# Altium footprint library 28377一体板.PcbLib: 62 footprints (part 4 of 4)
Each footprint in its own frame and in the unit in brackets; x right, y up, seen from the top. Pads: shape width x height; smd on the part's side, far side on the other; paste and mask are expansions set on the pad; w line width, h text height; cw(c..) or ccw(c..) is an arc to the next point about the centre after c.
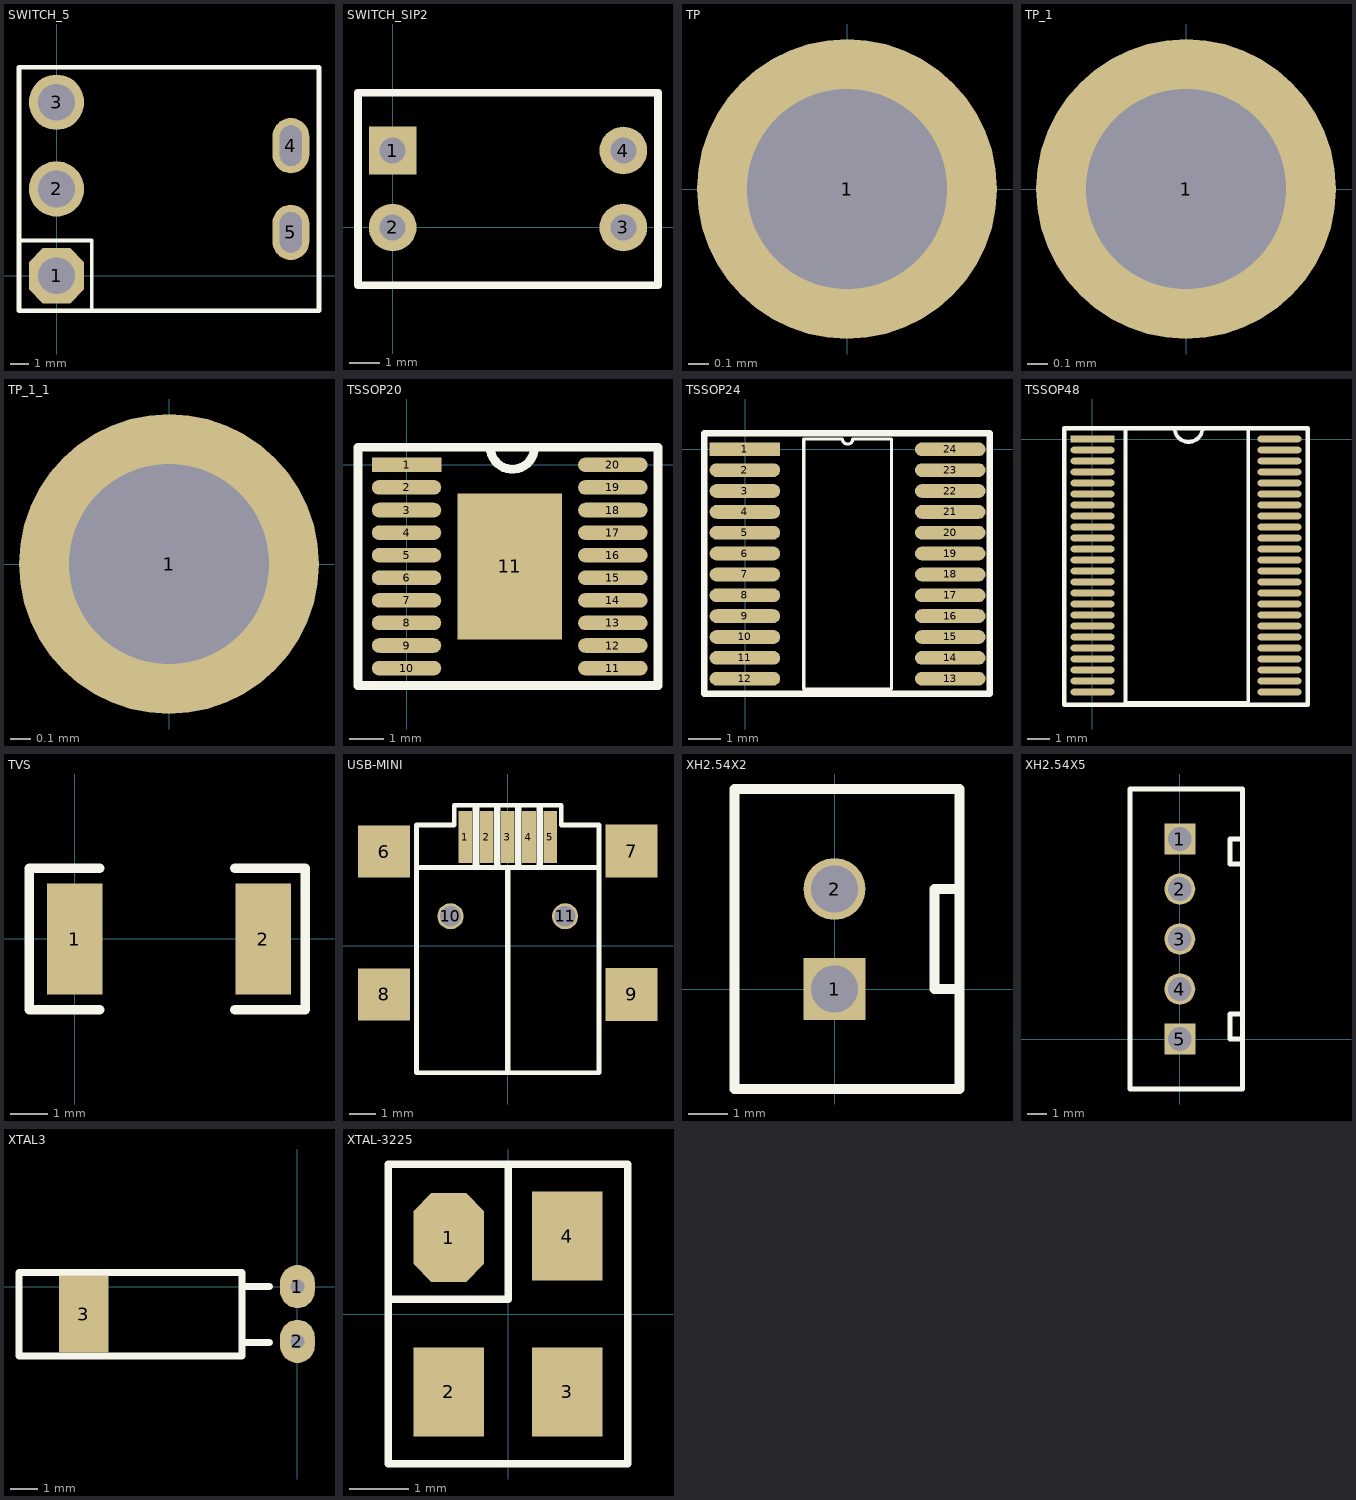
[diagram p3: the footprints below, top view; thin cyan lines are the x and y axes]

## SWITCH_5 [mm]
pads (5):
  oct 3x3 hole 2: 1(0,0)
  round 3 hole 2: 2(0,4.7) 3(0,9.4)
  oval 2x3 hole 1.2 slot 2.2 at 90 deg: 4(12.7,7.05) 5(12.7,2.35)
Top Overlay:
  lines w0.203: -2.032,1.905 1.905,1.905 1.905,-1.905
  lines w0.254: -2.032,-1.905 14.224,-1.905 14.224,11.303 -2.032,11.303 -2.032,-1.905

## SWITCH_SIP2 [mm]
pads (4):
  rect 1.575x1.575 hole 0.864: 1(0,2.54)
  round 1.575 hole 0.864: 2(0,0) 3(7.62,0) 4(7.62,2.54)
Top Overlay:
  lines w0.254: -1.143,-1.905 8.763,-1.905 8.763,4.445 -1.143,4.445 -1.143,-1.905

## TP [mm]
pads (1):
  round 1.5 hole 1: 1(0,0)

## TP_1 [mm]
pads (1):
  round 1.5 hole 1: 1(0,0)

## TP_1_1 [mm]
pads (1):
  round 1.5 hole 1: 1(0,0)

## TSSOP20 [mm]
pads (21):
  rect 2x0.42 smd: 1(0,0)
  oval 2x0.42 smd: 2(0,-0.65) 3(0,-1.3) 4(0,-1.95) 5(0,-2.6) 6(0,-3.25) 7(0,-3.9) 8(0,-4.55) 9(0,-5.2) 10(0,-5.85) 11(5.94,-5.85) 12(5.94,-5.2) 13(5.94,-4.55) 14(5.94,-3.9) 15(5.94,-3.25) 16(5.94,-2.6) 17(5.94,-1.95) 18(5.94,-1.3) 19(5.94,-0.65) 20(5.94,0)
  rect 3x4.2 smd: 11(2.97,-2.925)
Top Overlay:
  lines w0.254: 2.413,0.508 ccw(c3.048,0.508) 3.683,0.508 ; -1.397,-6.35 7.239,-6.35 7.239,0.508 -1.397,0.508 -1.397,-6.35

## TSSOP24 [mm]
pads (24):
  rect 2.2x0.43 smd: 1(-0.005,0.001)
  oval 2.2x0.43 smd: 2(-0.005,-0.649) 3(-0.005,-1.299) 4(-0.005,-1.949) 5(-0.005,-2.599) 6(-0.005,-3.249) 7(-0.005,-3.9) 8(-0.005,-4.549) 9(-0.005,-5.2) 10(-0.005,-5.849) 11(-0.005,-6.499) 12(-0.005,-7.15) 13(6.395,-7.15) 14(6.395,-6.499) 15(6.395,-5.849) 16(6.395,-5.2) 17(6.395,-4.549) 18(6.395,-3.9) 19(6.395,-3.249) 20(6.395,-2.599) 21(6.395,-1.949) 22(6.395,-1.299) 23(6.395,-0.649) 24(6.395,0.001)
Top Overlay:
  lines w0.1: 1.83,-7.475 1.83,0.326 3.032,0.326 ccw(c3.195,0.326) 3.357,0.326 4.56,0.326 4.56,-7.475 1.83,-7.475
  lines w0.203: -1.27,-7.62 -1.27,0.508 7.62,0.508 7.62,-7.62 -1.27,-7.62

## TSSOP48 [mm]
pads (48):
  rect 2x0.3 smd: 1(0.005,0.011)
  oval 2x0.3 smd: 2(0.005,-0.489) 3(0.005,-0.989) 4(0.005,-1.489) 5(0.005,-1.989) 6(0.005,-2.489) 7(0.005,-2.989) 8(0.005,-3.489) 9(0.005,-3.989) 10(0.005,-4.489) 11(0.005,-4.989) 12(0.005,-5.489) 13(0.005,-5.989) 14(0.005,-6.489) 15(0.005,-6.989) 16(0.005,-7.489) 17(0.005,-7.989) 18(0.005,-8.489) 19(0.005,-8.989) 20(0.005,-9.489) 21(0.005,-9.989) 22(0.005,-10.489) 23(0.005,-10.989) 24(0.005,-11.489) 25(8.505,-11.489) 26(8.505,-10.989) 27(8.505,-10.489) 28(8.505,-9.989) 29(8.505,-9.489) 30(8.505,-8.989) 31(8.505,-8.489) 32(8.505,-7.989) 33(8.505,-7.489) 34(8.505,-6.989) 35(8.505,-6.489) 36(8.505,-5.989) 37(8.505,-5.489) 38(8.505,-4.989) 39(8.505,-4.489) 40(8.505,-3.989) 41(8.505,-3.489) 42(8.505,-2.989) 43(8.505,-2.489) 44(8.505,-1.989) 45(8.505,-1.489) 46(8.505,-0.989) 47(8.505,-0.489) 48(8.505,0.011)
Top Overlay:
  lines w0.178: 7.005,-11.989 7.086,-11.908 ; 7.005,-11.989 1.505,-11.989 1.505,0.511 3.735,0.511 ccw(c4.37,0.511) 5.005,0.511 7.086,0.511 7.086,-11.908 ; 7.005,-11.989 7.086,-11.908
  lines w0.203: -1.27,-12.065 -1.27,0.508 9.779,0.508 9.779,-12.065 -1.27,-12.065

## TVS [mm]
pads (2):
  rect 1.5x3 smd: 1(0.003,-0.008) 2(5.083,-0.008)
Top Overlay:
  lines w0.254: 0.68,-1.912 -1.225,-1.912 -1.225,1.898 0.68,1.898 ; 4.309,-1.915 6.214,-1.915 6.214,1.895 4.309,1.895

## USB-MINI [mm]
pads (11):
  rect 0.52x2 smd: 1(-1.626,4.166) 2(-0.813,4.166) 3(0,4.166) 4(0.813,4.166) 5(1.626,4.166)
  rect 2x2 smd: 6(-4.746,3.612) 8(-4.746,-1.872)
  rect 2x2.032 smd: 7(4.746,3.628) 9(4.746,-1.872)
  round 1 hole 0.8: 10(-2.2,1.128) 11(2.2,1.128)
Top Overlay:
  rectangle: 1.092,3.073 1.346,5.334
  rectangle: 0.279,3.073 0.533,5.334
  rectangle: -0.533,3.048 -0.279,5.308
  rectangle: -1.346,3.048 -1.092,5.308
  lines w0.178: -3.5,-4.872 -3.5,4.628 -2.636,4.628 -2.057,4.628 -2.057,5.385 0.942,5.385 2.057,5.385 2.057,4.628 3.5,4.628 3.5,-4.872 -3.5,-4.872
  lines w0.2: -3.464,3.001 3.486,3.001 ; 0,-4.851 0,2.997

## XH2.54X2 [mil]
pads (2):
  rect 62x62 hole 47.24: 1(0,0)
  round 62 hole 47.24: 2(0,100)
Top Overlay:
  lines w10: 125,0 100,0 100,100 125,100 ; -100,-100 -100,200 125,200 125,-100 50,-100 -100,-100

## XH2.54X5 [mil]
pads (5):
  rect 62x62 hole 47.24: 1(0,400) 5(0,0)
  round 62 hole 47.24: 2(0,300) 3(0,200) 4(0,100)
Top Overlay:
  lines w10: 120,0 100,0 100,50 125,50 ; 125,350 100,350 100,400 125,400 ; -100,-100 -100,500 125,500 125,-100 50,-100 -100,-100

## XTAL3 [mm]
pads (3):
  oval 1.27x1.57 hole 0.5: 1(0,0) 2(0,-2)
  rect 1.8x2.8 smd: 3(-7.8,-1)
Top Overlay:
  lines w0.254: -2.032,-2.032 -1.016,-2.032 ; -2.032,0 -1.016,0 ; -10.16,-2.54 -2.032,-2.54 -2.032,0.508 -10.16,0.508 -10.16,-2.54

## XTAL-3225 [mm]
pads (4):
  oct 1.2x1.5 smd: 1(-1.003,1.295)
  rect 1.2x1.5 smd: 2(-1.003,-1.321) 3(1.003,-1.321) 4(1.003,1.321)
Top Overlay:
  lines w0.127: -2.032,0.254 0,0.254 0,2.54 ; -2.032,-2.54 2.032,-2.54 2.032,2.54 -2.032,2.54 -2.032,-2.54